# Altium schematic symbol library BLM18EG101TN1D.SchLib: 2 symbols
Pins are listed as number, name and electrical type; pins without a type are passive.

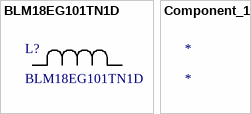
[diagram p0: symbols BLM18EG101TN1D to Component_1]

## BLM18EG101TN1D
designator L?
No Description Available; Mfr_Name: Murata; Type: DEV; Copyright: Copyright (C) 2023 Ultra Librarian. All rights reserved.; Manufacturer_Part_Number: BLM18EG101TN1D; Digi-Key_Part_Number_1: 490-5978-1-ND; Digi-Key_Part_Number_2: 490-5978-2-ND; Digi-Key_Part_Number_3: 490-5978-6-ND; RefDes: RefDes
footprint IND_BLM18_0603_MUR
pins: 1, 2

## Component_1
designator *